# Altium integrated library SQP500JB-1K.IntLib: 1 symbol
Pins are listed as number, name and electrical type; pins without a type are passive.

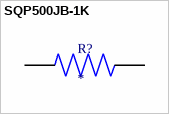
[diagram p0: symbol SQP500JB-1K]

## SQP500JB-1K
designator R?
MF: {'manufacturer': u'YAGEO'}; MP: SQP500JB-1K; Package: None; Price: None; Value: *; Availability: Unavailable
footprint RESAD2860W80L2200D950
pins: 1, 2